# EAGLE library part PYCOME-G01-OEM (library Pycom G01)
The G01 is the GPy OEM module. It’s just like the GPy but with a few bits less to make it easy to integrate. Triple network module: Cellular LTE-CAT M1/NB1, WiFi and Bluetooth.
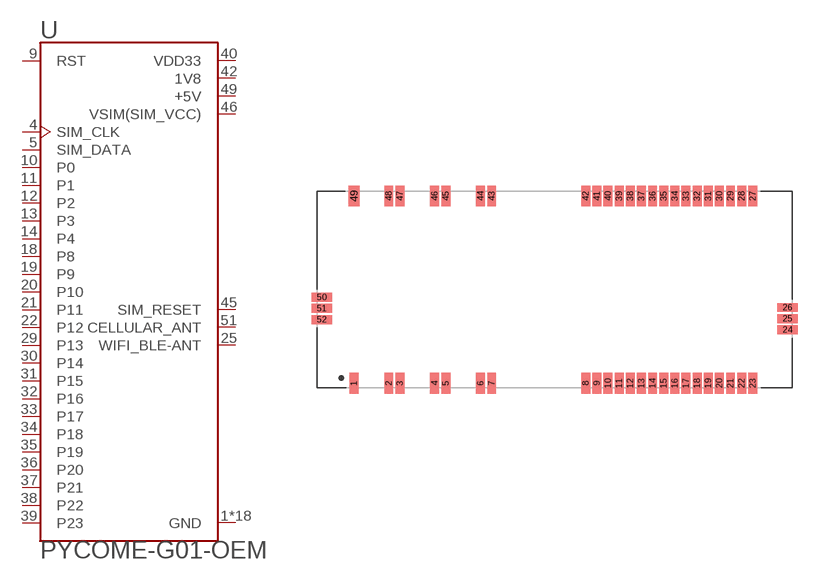
[diagram p0: symbol with the pads of PYCOM_PYCOME-G01-OEM; footprint PYCOM_PYCOME-G01-OEM]

Designator prefix U

## PYCOME-G01-OEM (Availability: Unavailable; MF: Pycom; MP: PYCOME-G01-OEM; Package: None; Price: None)  [PYCOM_PYCOME-G01-OEM]
1  GND  pwr
2  GND  pwr
3  GND  pwr
4  SIM_CLK
5  SIM_DATA
6  GND  pwr
7  GND  pwr
8  GND  pwr
9  RST  in
10  P0
11  P1
12  P2
13  P3
14  P4
18  P8
19  P9
20  P10
21  P11
22  P12
23  GND  pwr
24  GND  pwr
25  WIFI_BLE-ANT
26  GND  pwr
27  GND  pwr
28  GND  pwr
29  P13
30  P14
31  P15
32  P16
33  P17
34  P18
35  P19
36  P20
37  P21
38  P22
39  P23
40  VDD33  pwr
41  GND  pwr
42  1V8  pwr
43  GND  pwr
44  GND  pwr
45  SIM_RESET
46  VSIM(SIM_VCC)  pwr
47  GND  pwr
48  GND  pwr
49  +5V  pwr
50  GND  pwr
51  CELLULAR_ANT
52  GND  pwr

## Footprint PYCOM_PYCOME-G01-OEM (pad centres in mm)
smd 0.8 x 1.85: 1 -18.015,-8.4; 2 -14.895,-8.4; 3 -13.895,-8.4; 4 -10.775,-8.4; 5 -9.775,-8.4; 6 -6.655,-8.4; 7 -5.655,-8.4; 8 2.795,-8.4; 9 3.795,-8.4; 10 4.795,-8.4; 11 5.795,-8.4; 12 6.795,-8.4; 13 7.795,-8.4; 14 8.795,-8.4; 15 9.795,-8.4; 16 10.795,-8.4; 17 11.795,-8.4; 18 12.795,-8.4; 19 13.795,-8.4; 20 14.795,-8.4; 21 15.795,-8.4; 22 16.795,-8.4; 23 17.795,-8.4; 27 17.795,8.4; 28 16.795,8.4; 29 15.795,8.4; 30 14.795,8.4; 31 13.795,8.4; 32 12.795,8.4; 33 11.795,8.4; 34 10.795,8.4; 35 9.795,8.4; 36 8.795,8.4; 37 7.795,8.4; 38 6.795,8.4; 39 5.795,8.4; 40 4.795,8.4; 41 3.795,8.4; 42 2.795,8.4; 43 -5.655,8.4; 44 -6.655,8.4; 45 -9.775,8.4; 46 -10.775,8.4; 47 -13.895,8.4; 48 -14.895,8.4
smd 1.85 x 0.8: 24 20.91,-3.605; 25 20.91,-2.605; 26 20.91,-1.605; 50 -20.91,-0.691; 51 -20.91,-1.691; 52 -20.91,-2.691
smd 1 x 1.85: 49 -18.015,8.4